# Altium footprint library [Relay] G8K-17R_DC12.PcbLib: 1 footprints
Each footprint in its own frame and in the unit in brackets; x right, y up, seen from the top. Pads: shape width x height; smd on the part's side, far side on the other; paste and mask are expansions set on the pad; w line width, h text height; cw(c..) or ccw(c..) is an arc to the next point about the centre after c.
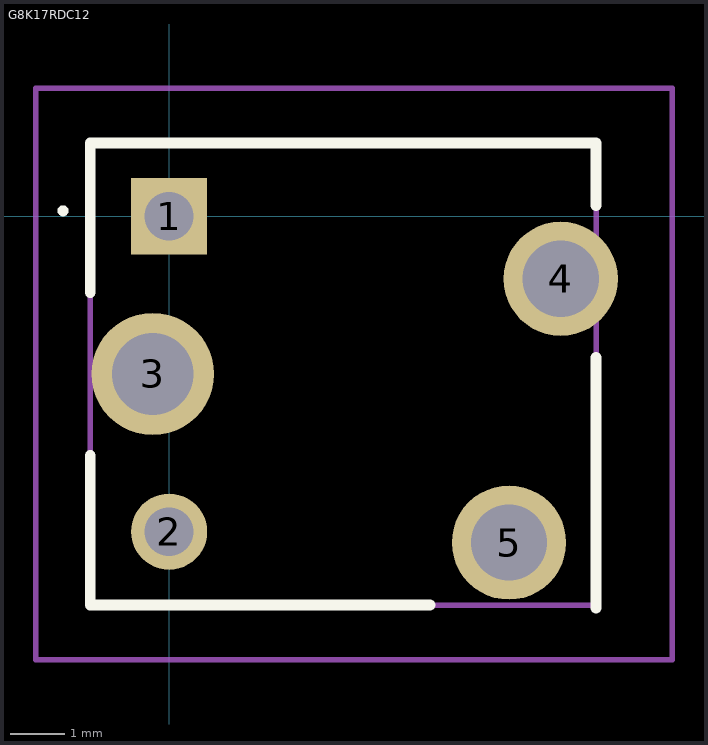
[diagram p0: the footprint, top view; thin cyan lines are the x and y axes]

## G8K17RDC12 [mm]
pads (5):
  rect 1.4x1.4 hole 0.9: 1(0,0)
  round 1.4 hole 0.9: 2(0,-5.8)
  round 2.25 hole 1.5: 3(-0.3,-2.9)
  round 2.1 hole 1.4: 4(7.2,-1.15) 5(6.25,-6)
Top Overlay:
  lines w0.1: -2,0.1 cw(c-1.95,0.1) -1.9,0.1 cw(c-1.95,0.1) -2,0.1
  lines w0.2: -1.45,-4.4 -1.45,-7.15 4.8,-7.15 ; -1.45,-1.4 -1.45,1.35 7.85,1.35 7.85,0.2 ; 7.85,-7.2 7.85,-2.6
Mechanical 15:
  lines w0.1: -1.45,-7.15 -1.45,1.35 7.85,1.35 7.85,-7.15 -1.45,-7.15
Mechanical 20:
  lines w0.1: -2.45,-8.15 -2.45,2.35 9.25,2.35 9.25,-8.15 -2.45,-8.15
3D body "G8K-17R.STEP": height 14.5, standoff 0, extent -1.625,-7.366 7.975,1.434